# EAGLE library part OPENLOG (library SFDC BASELINE LIBRARY)
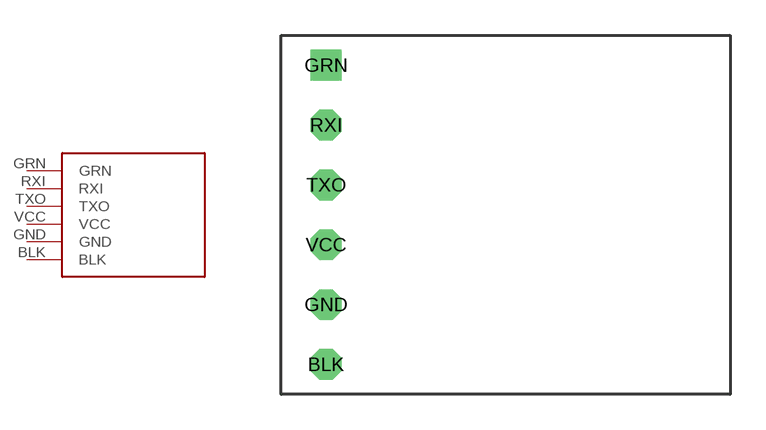
[diagram p2: symbol with the pads of OPENLOG; footprint OPENLOG]

Designator prefix OPENLOG

## OPENLOG  [OPENLOG]
BLK  BLK
GND  GND
GRN  GRN
RXI  RXI
TXO  TXO
VCC  VCC

## Footprint OPENLOG (pad centres in mm)
drill 0.8 octagon: BLK -7.62,-6.35; GND -7.62,-3.81; RXI -7.62,3.81; TXO -7.62,1.27; VCC -7.62,-1.27
drill 0.8 square: GRN -7.62,6.35